# Altium schematic symbol library LQH32PN6R8NN0L.SchLib: 1 symbol
Pins are listed as number, name and electrical type; pins without a type are passive.

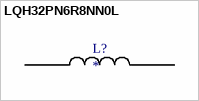
[diagram p0: symbol LQH32PN6R8NN0L]

## LQH32PN6R8NN0L
designator L?
FIXED IND 22UH 450MA 810 MOHM; MF: {'manufacturer': u'Murata'}; MP: LQH32PN6R8NN0L; Package: None; Price: None; Value: *; Availability: Unavailable
footprint IND_LQH32PN6R8NN0L
pins: 1, 2